# Altium schematic symbol library MOSFET_POWER.SchLib: 22 symbols
Pins are listed as number, name and electrical type; pins without a type are passive.

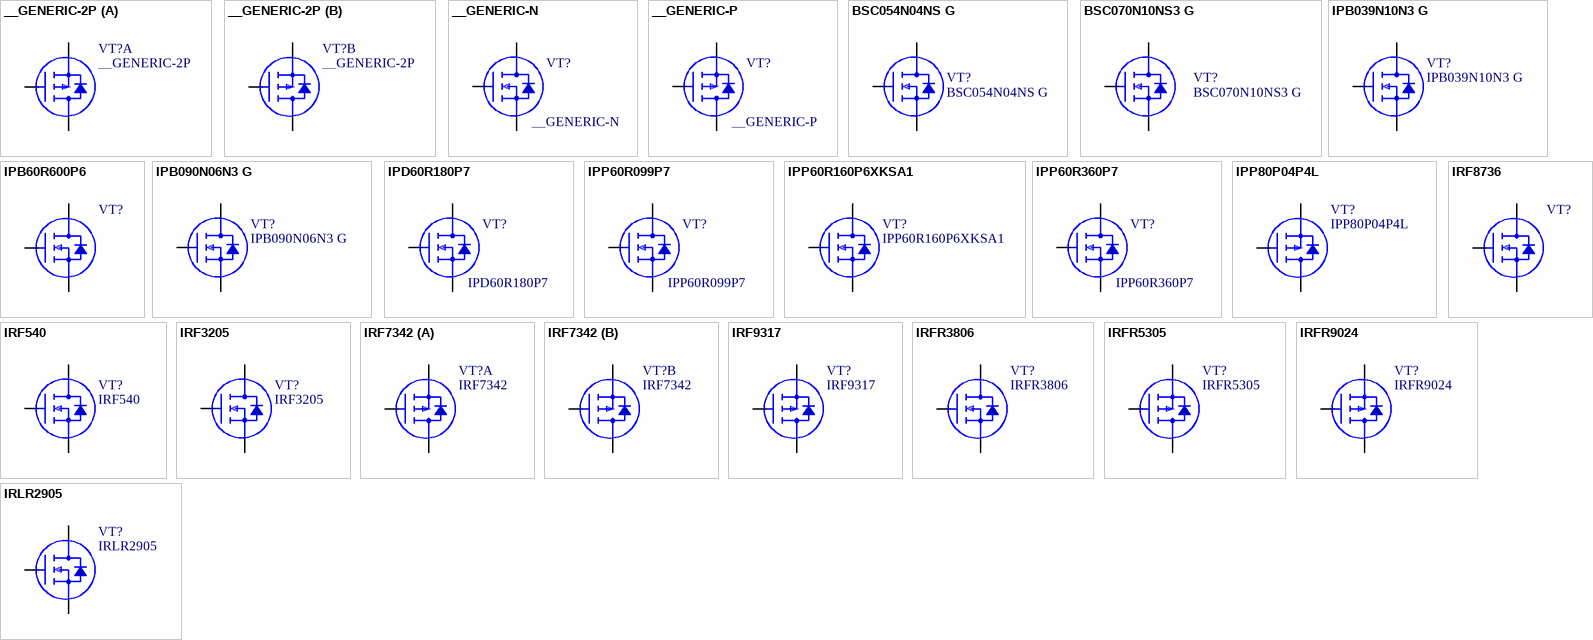
[diagram p0: symbols __GENERIC-2P to IRLR2905]

## __GENERIC-2P
designator VT?
Транзистор МОП, 2 транзистора, P-канальный; ComponentDescription: =ComponentType+', '+ChannelType+', '+Comment+', '+Package; ChannelType: P-канальный; ComponentType: Транзистор МОП, 2 транзистора
footprint 8-SOIC (SOIC, 8-Leads, Body 4,90x3,90mm, Pitch 1,27mm, IPC Medium Density); pin to pad D1>7+8 D2>5+6 G1>2 G2>4 S1>1 S2>3
part A pins: D1, G1, S1
part B pins: D2, G2, S2

## __GENERIC-N
designator VT?
Транзистор МОП, одиночный, N-канальный; ComponentDescription: =ComponentType+', '+ChannelType+', '+Comment+', '+Package; ChannelType: N-канальный; ComponentType: Транзистор МОП, одиночный
footprint 8-PowerWDFN; pin to pad D>5 G>4 S>1+2+3
footprint TO-263-3; pin to pad D>2 G>1 S>3
footprint TO-263-7 (D2-PAK, 7-Pads, Body 7,93x8,69mm (max), IPC Medium Density); pin to pad D>4 G>1 S>2+3+5+6+7
footprint TO-220; pin to pad D>2 G>1 S>3
footprint 8-SOIC (SOIC, 8-Leads, Body 4,90x3,90mm, Pitch 1,27mm, IPC Medium Density); pin to pad D>5+6+7+8 G>4 S>1+2+3
footprint TO-252 (D-PAK, 3-Pads, Body 6,20x6,71mm (max), IPC Medium Density); pin to pad D>4 G>1 S>3
footprint TO-247-h20; pin to pad D>2 G>1 S>3
footprint TO220-G-TYPE1; pin to pad D>2+4 G>1 S>3
footprint TDSON-8; pin to pad D>5+6+7+8+9+10+11 G>4 S>1+2+3
footprint WDFN-8
footprint TO-247-h20 - BENT; pin to pad D>2 G>1 S>3
pins: D, G, S

## __GENERIC-P
designator VT?
Транзистор МОП, одиночный, P-канальный; ComponentDescription: =ComponentType+', '+ChannelType+', '+Comment+', '+Package; ChannelType: P-канальный; ComponentType: Транзистор МОП, одиночный
footprint 8-PowerWDFN; pin to pad D>5 G>4 S>1+2+3
footprint TO-263-3; pin to pad D>2 G>1 S>3
footprint TO-263-7 (D2-PAK, 7-Pads, Body 7,93x8,69mm (max), IPC Medium Density); pin to pad D>4 G>1 S>2+3+5+6+7
footprint TO-220; pin to pad D>2 G>1 S>3
footprint 8-SOIC (SOIC, 8-Leads, Body 4,90x3,90mm, Pitch 1,27mm, IPC Medium Density); pin to pad D>5+6+7+8 G>4 S>1+2+3
footprint TO-252 (D-PAK, 3-Pads, Body 6,20x6,71mm (max), IPC Medium Density); pin to pad D>4 G>1 S>3
footprint TDSON-8; pin to pad D>5+6+7+8+9+10+11 G>4 S>1+2+3
footprint 8-PowerVDFN; pin to pad D>5 G>4 S>1+2+3
pins: D, G, S

## BSC054N04NS G
designator VT?
Транзистор МОП, одиночный, N-канальный; ComponentDescription: =ComponentType+', '+ChannelType+', '+Comment+', '+Package; ChannelType: N-канальный; ComponentType: Транзистор МОП, одиночный
footprint 8-PowerWDFN; pin to pad D>5 G>4 S>1+2+3
pins: D, G, S

## BSC070N10NS3 G
designator VT?
Транзистор МОП, одиночный, N-канальный; ComponentDescription: =ComponentType+', '+ChannelType+', '+Comment+', '+Package; ChannelType: N-канальный; ComponentType: Транзистор МОП, одиночный
footprint 8-PowerWDFN; pin to pad D>5 G>4 S>1+2+3
pins: D, G, S

## IPB039N10N3 G
designator VT?
Транзистор МОП, одиночный, N-канальный; ComponentDescription: =ComponentType+', '+ChannelType+', '+Comment+', '+Package; ChannelType: N-канальный; ComponentType: Транзистор МОП, одиночный
footprint TO-263-7 (D2-PAK, 7-Pads, Body 7,93x8,69mm (max), IPC Medium Density); pin to pad D>4 G>1 S>2+3+5+6+7
pins: D, G, S

## IPB60R600P6
designator VT?  (value not drawn)
Транзистор МОП, одиночный, N-канальный; ComponentDescription: =ComponentType+', '+ChannelType+', '+Comment+', '+Package; ChannelType: N-канальный; ComponentType: Транзистор МОП, одиночный
footprint TO-263-3; pin to pad D>2 G>1 S>3
pins: D, G, S

## IPB090N06N3 G
designator VT?
Транзистор МОП, одиночный, N-канальный; ComponentDescription: =ComponentType+', '+ChannelType+', '+Comment+', '+Package; ChannelType: N-канальный; ComponentType: Транзистор МОП, одиночный
footprint TO-263-3; pin to pad D>2 G>1 S>3
pins: D, G, S

## IPD60R180P7
designator VT?
Транзистор МОП, одиночный, N-канальный; ComponentDescription: =ComponentType+', '+ChannelType+', '+Comment+', '+Package; ChannelType: N-канальный; ComponentType: Транзистор МОП, одиночный
footprint TO-252 (D-PAK, 3-Pads, Body 6,20x6,71mm (max), IPC Medium Density); pin to pad D>4 G>1 S>3
pins: D, G, S

## IPP60R099P7
designator VT?
Транзистор МОП, одиночный, N-канальный; ComponentDescription: =ComponentType+', '+ChannelType+', '+Comment+', '+Package; ChannelType: N-канальный; ComponentType: Транзистор МОП, одиночный
footprint TO-220; pin to pad D>2 G>1 S>3
footprint TO220-BENT_MIROR; pin to pad D>2 G>1 S>3
footprint TO220-BENT; pin to pad D>2 G>1 S>3
pins: D, G, S

## IPP60R160P6XKSA1
designator VT?
Транзистор МОП, одиночный, N-канальный; ComponentDescription: =ComponentType+', '+ChannelType+', '+Comment+', '+Package; ChannelType: N-канальный; ComponentType: Транзистор МОП, одиночный
footprint TO-220; pin to pad D>2 G>1 S>3
footprint TO220-G-TYPE1; pin to pad D>2+4 G>1 S>3
pins: D, G, S

## IPP60R360P7
designator VT?
Транзистор МОП, одиночный, N-канальный; ComponentDescription: =ComponentType+', '+ChannelType+', '+Comment+', '+Package; ChannelType: N-канальный; ComponentType: Транзистор МОП, одиночный
footprint TO-220; pin to pad D>2 G>1 S>3
pins: D, G, S

## IPP80P04P4L
designator VT?
Транзистор МОП, одиночный, P-канальный; ComponentDescription: =ComponentType+', '+ChannelType+', '+Comment+', '+Package; ChannelType: P-канальный; ComponentType: Транзистор МОП, одиночный
footprint TO-220; pin to pad D>2 G>1 S>3
pins: D, G, S

## IRF540
designator VT?
Транзистор МОП, одиночный, N-канальный; ComponentDescription: =ComponentType+', '+ChannelType+', '+Comment+', '+Package; ChannelType: N-канальный; ComponentType: Транзистор МОП, одиночный
footprint TO-220; pin to pad D>2 G>1 S>3
pins: D, G, S

## IRF3205
designator VT?
Транзистор МОП, одиночный, N-канальный; ComponentDescription: =ComponentType+', '+ChannelType+', '+Comment+', '+Package; ChannelType: N-канальный; ComponentType: Транзистор МОП, одиночный
footprint TO-220; pin to pad D>2 G>1 S>3
pins: D, G, S

## IRF7342
designator VT?
Транзистор МОП, 2 транзистора, P-канальный; ComponentDescription: =ComponentType+', '+ChannelType+', '+Comment+', '+Package; ChannelType: P-канальный; ComponentType: Транзистор МОП, 2 транзистора
footprint 8-SOIC (SOIC, 8-Leads, Body 4,90x3,90mm, Pitch 1,27mm, IPC Medium Density); pin to pad D1>7+8 D2>5+6 G1>2 G2>4 S1>1 S2>3
part A pins: D1, G1, S1
part B pins: D2, G2, S2

## IRF8736
designator VT?  (value not drawn)
Транзистор МОП, одиночный, N-канальный; ComponentDescription: =ComponentType+', '+ChannelType+', '+Comment+', '+Package; ChannelType: N-канальный; ComponentType: Транзистор МОП, одиночный
footprint 8-SOIC (SOIC, 8-Leads, Body 4,90x3,90mm, Pitch 1,27mm, IPC Medium Density); pin to pad D>5+6+7+8 G>4 S>1+2+3
pins: D, G, S

## IRF9317
designator VT?
Транзистор МОП, одиночный, P-канальный; ComponentDescription: =ComponentType+', '+ChannelType+', '+Comment+', '+Package; ChannelType: P-канальный; ComponentType: Транзистор МОП, одиночный
footprint 8-SOIC (SOIC, 8-Leads, Body 4,90x3,90mm, Pitch 1,27mm, IPC Medium Density); pin to pad D>5+6+7+8 G>4 S>1+2+3
pins: D, G, S

## IRFR3806
designator VT?
Транзистор МОП, одиночный, N-канальный; ComponentDescription: =ComponentType+', '+ChannelType+', '+Comment+', '+Package; ChannelType: N-канальный; ComponentType: Транзистор МОП, одиночный
footprint TO-252 (D-PAK, 3-Pads, Body 6,20x6,71mm (max), IPC Medium Density); pin to pad D>4 G>1 S>3
pins: D, G, S

## IRFR5305
designator VT?
Транзистор МОП, одиночный, P-канальный; ComponentDescription: =ComponentType+', '+ChannelType+', '+Comment+', '+Package; ChannelType: P-канальный; ComponentType: Транзистор МОП, одиночный
footprint TO-252 (D-PAK, 3-Pads, Body 6,20x6,71mm (max), IPC Medium Density); pin to pad D>4 G>1 S>3
pins: D, G, S

## IRFR9024
designator VT?
Транзистор МОП, одиночный, P-канальный; ComponentDescription: =ComponentType+', '+ChannelType+', '+Comment+', '+Package; ChannelType: P-канальный; ComponentType: Транзистор МОП, одиночный
footprint TO-252 (D-PAK, 3-Pads, Body 6,20x6,71mm (max), IPC Medium Density); pin to pad D>4 G>1 S>3
pins: D, G, S

## IRLR2905
designator VT?
Транзистор МОП, одиночный, N-канальный; ComponentDescription: =ComponentType+', '+ChannelType+', '+Comment+', '+Package; ChannelType: N-канальный; ComponentType: Транзистор МОП, одиночный
footprint TO-252 (D-PAK, 3-Pads, Body 6,20x6,71mm (max), IPC Medium Density); pin to pad D>4 G>1 S>3
pins: D, G, S